# Altium footprint library FootLIB.PcbLib: 16 footprints
Each footprint in its own frame and in the unit in brackets; x right, y up, seen from the top. Pads: shape width x height; smd on the part's side, far side on the other; paste and mask are expansions set on the pad; w line width, h text height; cw(c..) or ccw(c..) is an arc to the next point about the centre after c.
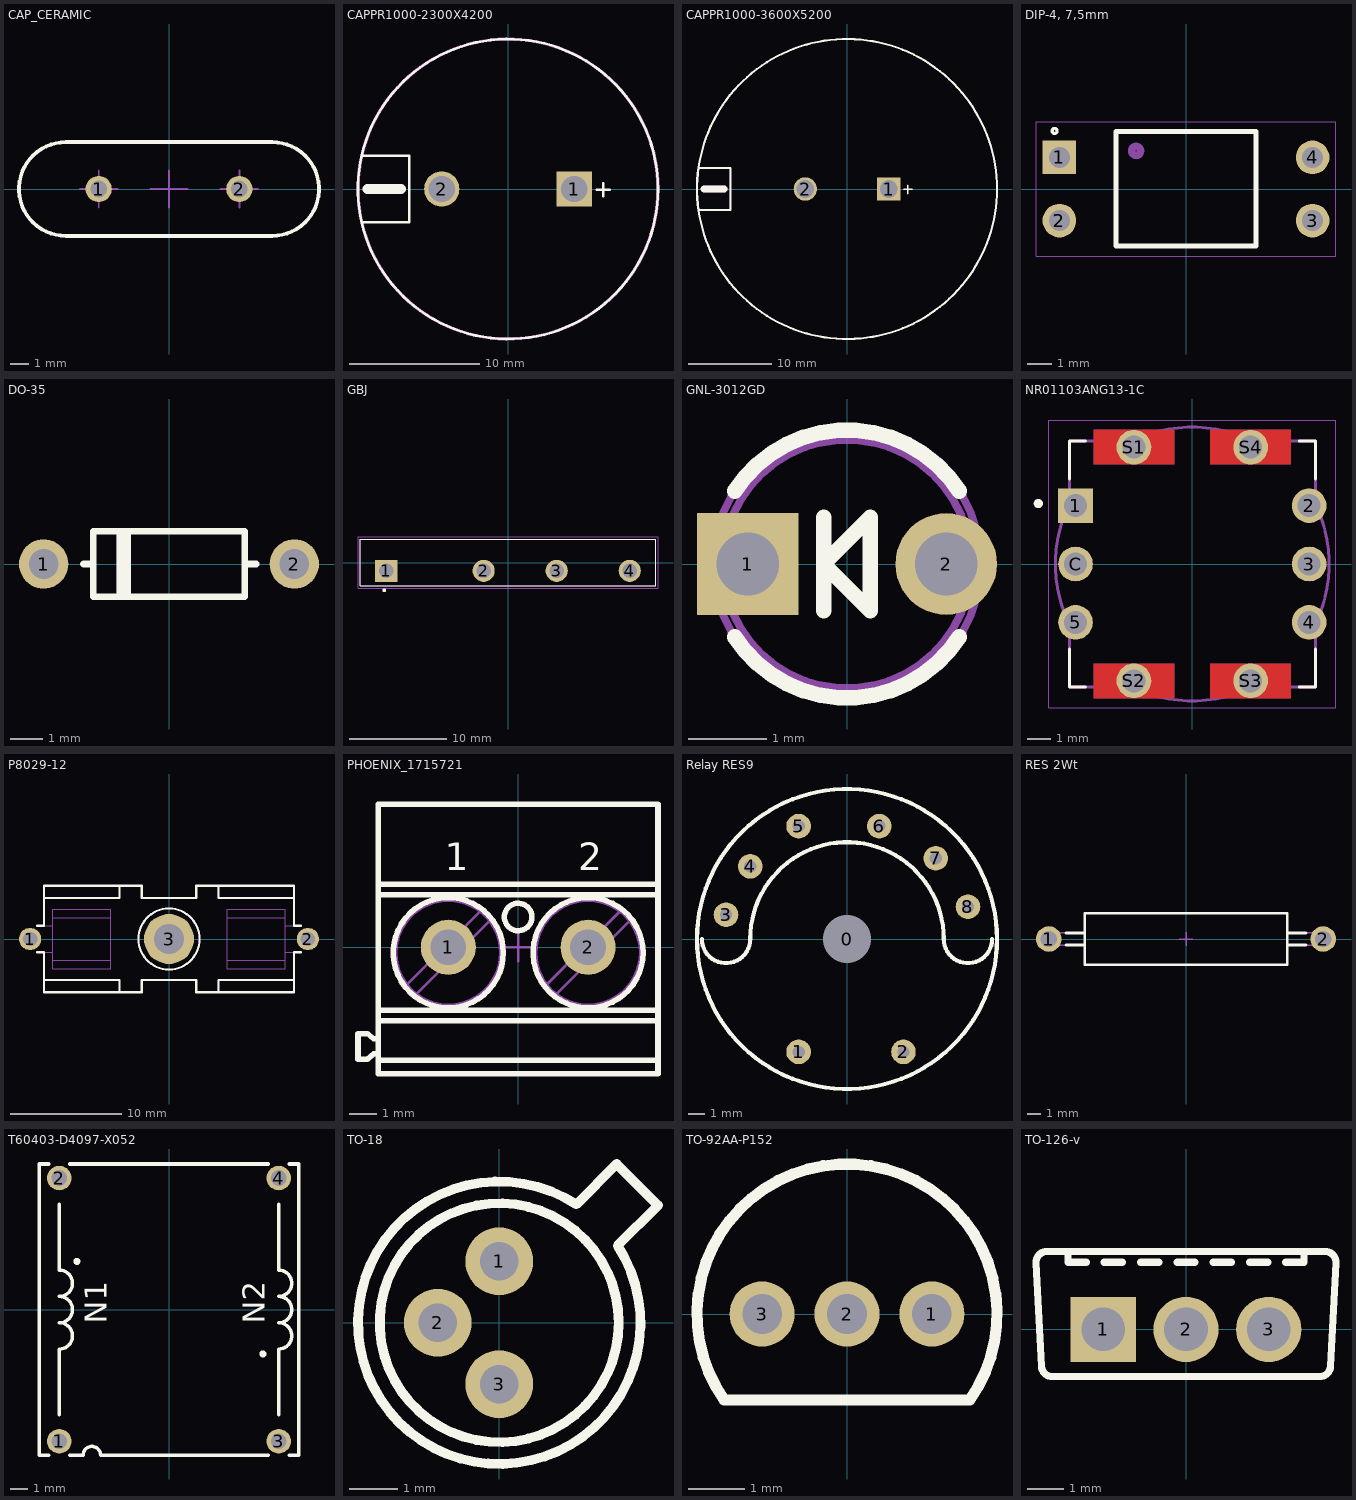
[diagram p0: the footprints below, top view; thin cyan lines are the x and y axes]

## CAP_CERAMIC [mm] "Capacitor Radial Button, Pin spacing 7.5mm - Body Diameter  16mm X Body Width 5mm X Body Height 19mm"
height 19
pads (2):
  round 1.4 hole 0.9: 1(-3.75,0) 2(3.75,0)
Top Overlay:
  lines w0.2: -5.5,-2.5 cw(c-5.5,0) -5.5,2.5 5.5,2.5 cw(c5.5,0) 5.5,-2.5 -5.5,-2.5
Mechanical 8:
  lines w0.1: -4.75,0 -3.75,0 ; -3.75,-1 -3.75,0 ; -3.75,1 -3.75,0 ; -2.75,0 -3.75,0 ; -1,0 0,0 ; 0,-1 0,0 ; 0,1 0,0 ; 1,0 0,0 ; 2.75,0 3.75,0 ; 3.75,-1 3.75,0 ; 3.75,1 3.75,0 ; 4.75,0 3.75,0
Mechanical 14:
  lines w0.1: -5.5,-2.5 cw(c-5.5,0) -5.5,2.5 5.5,2.5 cw(c5.5,0) 5.5,-2.5 -5.5,-2.5
3D body "CAPRB_MURATA_DEBE33D103ZA3B.stp": height 19, standoff -3.8, extent -8,-2.5 8,2.5

## CAPPR1000-2300X4200 [mm] "Capacitor, Radial, Pins spacing 10mm - Body Diameter 23mm X Body  Height 42mm"
height 42
pads (2):
  rect 2.7x2.7 hole 2: 1(5.08,0)
  round 2.7 hole 2: 2(-5.08,0)
Top Overlay:
  circle w0.2: c0,0 r11.5
  lines w0.2: -11.131,-2.54 -7.575,-2.54 -7.575,2.54 -11.131,2.54 ; 6.8,-0.05 7.8,-0.05 ; 7.3,-0.55 7.3,0.45
  lines w0.8: -10.75,0 -8.21,0
Mechanical 13:
  circle w0.254: c0,0 r11.5
Mechanical 14:
  circle w0.1: c0,0 r11.5
  lines w0.1: -11.131,-2.54 -7.575,-2.54 -7.575,2.54 -11.131,2.54 ; 6.8,-0.05 7.8,-0.05 ; 7.3,-0.55 7.3,0.45
  lines w0.8: -10.75,0 -8.21,0
3D body "CAPPR1000-2300X4200.stp": height 42, standoff -4, extent -11.5,-11.5 11.5,11.5

## CAPPR1000-3600X5200 [mm] "Capacitor, Radial, Leads spacing 10mm - Body Diameter 35.0mm X Body  Height 50.0mm"
height 52
pads (2):
  rect 2.8x2.8 hole 2.1: 1(5,0)
  round 2.8 hole 2.1: 2(-5,0)
Top Overlay:
  circle w0.254: c0,0 r18
  lines w0.2: 6.8,-0.05 7.8,-0.05 ; 7.3,-0.55 7.3,0.45
  lines w0.254: -17.75,-2.5 -14,-2.5 -14,2.5 -17.75,2.5
  lines w0.8: -17.159,0 -14.725,0
Mechanical 14:
  circle w0.1: c0,0 r18
  lines w0.1: -17.75,-2.5 -14,-2.5 -14,2.5 -17.75,2.5 ; 6.8,-0.05 7.8,-0.05 ; 7.3,-0.55 7.3,0.45
  lines w0.8: -17.159,0 -14.725,0
3D body "CAPPR1000-3600X5200.stp": height 52, standoff -4, extent -18,-17.958 18,17.958

## DIP-4, 7,5mm [mm]
pads (4):
  rect 1.35x1.35 / inner round 1.35 / far side rect 1.35x1.35 hole 0.85: 1(-5.08,1.27)
  round 1.35 hole 0.85: 2(-5.08,-1.27) 3(5.08,-1.27) 4(5.08,1.27)
Top Overlay:
  circle w0.127: c-5.273,2.33 r0.1
  lines w0.2: -2.8,2.29 -2.8,-2.29 2.8,-2.29 2.8,2.29 ; -2.8,2.3 2.8,2.3
Mechanical 13:
  circle w0.3: c-2.003,1.53 r0.18
Mechanical 15:
  lines w0.05: -6.02,-2.7 -6.02,2.7 6.02,2.7 6.02,-2.7 -6.02,-2.7
3D body "step_temp.STEP": height 4.8, standoff -2.72, extent -5.211,-2.29 5.211,2.29

## DO-35 [mm] "Diode, Axial, Body 4.6 x 2 mm (LxDia. max), Pin spacing 7.62mm"
height 2
pads (2):
  round 1.5 hole 0.9: 1(-3.81,0) 2(3.81,0)
Top Overlay:
  lines w0.2: -2.6,0 -2.35,0 ; -1.499,-1 -1.499,0.999 ; -1.45,-1 -1.45,0.999 ; -1.401,-1 -1.401,0.999 ; -1.352,-1 -1.352,0.999 ; -1.303,-1 -1.303,0.999 ; -1.254,-1 -1.254,0.999 ; 2.4,0 2.65,0 ; -2.298,-1 -2.298,1 2.3,1 2.3,-1 -2.298,-1
Mechanical 14:
  lines w0.1: -2.6,0 -2.35,0 ; -1.55,-1 -1.55,1 ; -1.501,-1 -1.501,1 ; -1.499,-1 -1.499,1 ; -1.452,-1 -1.452,1 ; -1.403,-1 -1.403,1 ; -1.354,-1 -1.354,1 ; -1.305,-1 -1.305,1 ; -1.205,-1 -1.205,1 ; 2.35,0 2.6,0 ; -2.3,-1 2.3,-1 2.3,1 -2.3,1 -2.3,-1 ; -1.45,-1 -1.45,1 -1.45,-1 ; -1.401,-1 -1.401,1 -1.401,-1 ; -1.352,-1 -1.352,1 -1.352,-1 ; -1.303,-1 -1.303,1 -1.303,-1 ; -1.254,-1 -1.254,1 -1.254,-1
3D body "DO-35.stp": height 1.91, standoff -3, extent -4.076,-0.955 4.077,0.955

## GBJ [mm]
pads (4):
  rect 2.27x2.27 hole 1.51: 1(-12.5,-0.85)
  round 2.27 hole 1.51: 2(-2.5,-0.85) 3(5,-0.85) 4(12.5,-0.85)
Top Overlay:
  circle w0.2: c-12.7,-2.85 r0.1
  lines w0.127: -15.15,-2.4 15.15,-2.4 15.15,2.4 -15.15,2.4 -15.15,-2.4
Mechanical 13:
  circle w0.2: c-12.7,-2.85 r0.1
  lines w0.127: -15.15,-2.4 15.15,-2.4 15.15,2.4 -15.15,2.4 -15.15,-2.4
Mechanical 15:
  lines w0.05: -15.4,-2.65 15.4,-2.65 15.4,2.65 -15.4,2.65 -15.4,-2.65
3D body "GBJ2506.STEP": height 27.04, standoff -11.26, extent -15,-2.695 15,1.905

## GNL-3012GD [mm] "LED, Green, Body Dia. 3.43 mm, Pin spacing 2.54mm"
height 6.35
pads (2):
  rect 1.3x1.3 hole 0.8: 1(-1.27,0)
  round 1.3 hole 0.8: 2(1.27,0)
Top Overlay:
  lines w0.2: -1.438,-0.934 ccw(c0,0) 1.438,-0.934 ; -1.438,0.934 cw(c0,0) 1.438,0.934 ; -0.3,-0.6 -0.3,0.6 ; -0.3,0 0.3,0.6 0.3,-0.6 -0.3,0
Mechanical 14:
  circle w0.1: c0,0 r1.715
  circle w0.1: c0,0 r1.59
  lines w0.1: -0.3,-0.6 -0.3,0.6 ; -0.3,0 0.3,-0.6 0.3,0.6 -0.3,0
3D body "LED_3MM_GREEN_v.stp": height 9.85, standoff -3.5, extent -1.715,-1.715 1.715,1.715

## NR01103ANG13-1C [mm] "Rotary switch"
pads (10):
  rect 1.508x1.508 hole 1: 1(-5.08,2.54)
  round 1.508 hole 1: 2(5.08,2.54) 3(5.08,0) 4(5.08,-2.54) 5(-5.08,-2.54) C(-5.08,0)
  round 1.508 hole 1 mask+0: S1(-2.54,5.08) S2(-2.54,-5.08) S3(2.54,-5.08) S4(2.54,5.08)
Top Layer:
  region: -0.79,4.33 -4.29,4.33 -4.29,5.83 -0.79,5.83
  region: 4.29,4.33 0.79,4.33 0.79,5.83 4.29,5.83
  region: 4.29,-5.83 0.79,-5.83 0.79,-4.33 4.29,-4.33
  region: -0.79,-5.83 -4.29,-5.83 -4.29,-4.33 -0.79,-4.33
Bottom Layer:
  region: 4.29,4.33 0.79,4.33 0.79,5.83 4.29,5.83
  region: 4.29,-5.83 0.79,-5.83 0.79,-4.33 4.29,-4.33
  region: -0.79,-5.83 -4.29,-5.83 -4.29,-4.33 -0.79,-4.33
  region: -0.79,4.33 -4.29,4.33 -4.29,5.83 -0.79,5.83
Top Overlay:
  circle w0.2: c-6.7,2.63 r0.1
  lines w0.127: -5.35,-3.7 -5.35,-5.35 -4.65,-5.35 ; -5.35,3.7 -5.35,5.35 -4.65,5.35 ; 4.65,-5.35 5.35,-5.35 5.35,-3.7 ; 4.65,5.35 5.35,5.35 5.35,3.7
Top Solder:
  region: -0.7,4.23 -4.4,4.23 -4.4,5.93 -0.7,5.93
  region: 4.38,4.23 0.68,4.23 0.68,5.93 4.38,5.93
  region: -0.7,-5.93 -4.4,-5.93 -4.4,-4.23 -0.7,-4.23
  region: 4.38,-5.93 0.68,-5.93 0.68,-4.23 4.38,-4.23
Bottom Solder:
  region: -0.7,4.23 -4.4,4.23 -4.4,5.93 -0.7,5.93
  region: 4.38,4.23 0.68,4.23 0.68,5.93 4.38,5.93
  region: -0.7,-5.93 -4.4,-5.93 -4.4,-4.23 -0.7,-4.23
  region: 4.38,-5.93 0.68,-5.93 0.68,-4.23 4.38,-4.23
Mechanical 13:
  lines w0.127: -5.353,-2.611 cw(c0,0) -5.353,2.611 ; -5.35,-2.616 -5.35,-5.35 -2.616,-5.35 ; -5.35,2.616 -5.35,5.35 -2.616,5.35 ; -2.611,-5.353 ccw(c0,0) 2.611,-5.353 ; -2.611,5.353 cw(c0,0) 2.611,5.353 ; 2.616,-5.35 5.35,-5.35 5.35,-2.616 ; 2.616,5.35 5.35,5.35 5.35,2.616 ; 5.353,-2.611 ccw(c0,0) 5.353,2.611
Mechanical 15:
  lines w0.05: -6.25,-6.25 6.25,-6.25 6.25,6.25 -6.25,6.25 -6.25,-6.25
3D body "step_temp.STEP": height 20, standoff -3.5, extent -5.978,-5.978 5.978,5.978

## P8029-12 [mm] "SCHURTER OGN Series, Fuse holder for 5x20mm Fuses"
height 11.5
pads (3):
  round 2 hole 1.3: 1(-12.5,0) 2(12.5,0)
  round 4.5 hole 2.7: 3(0,0)
Top Overlay:
  circle w0.2: c0,0 r2.75
  lines w0.2: -11.85,-1.2 -11.25,-1.2 -11.25,-4.8 -2.45,-4.8 -2.45,-3.7 2.45,-3.7 2.45,-4.8 11.25,-4.8 ; -11.85,1.2 -11.25,1.2 -11.25,4.8 -2.45,4.8 -2.45,3.7 2.45,3.7 2.45,4.8 11.25,4.8 11.25,1.2 11.85,1.2 ; -11.25,-3.7 -4.45,-3.7 -4.45,-4.8 ; -11.25,3.7 -4.45,3.7 -4.45,4.8 ; 4.45,-4.8 4.45,-3.7 11.25,-3.7 11.25,-4.8 ; 4.45,4.8 4.45,3.7 11.25,3.7 ; 11.85,-1.2 11.25,-1.2 11.25,-4.8
Mechanical 14:
  circle w0.1: c0,0 r2.75
  lines w0.1: -11.85,-1.2 -10.45,-1.2 ; -11.85,1.2 -10.45,1.2 -10.45,0 ; -11.25,-3.7 -4.45,-3.7 -4.45,-4.8 ; -11.25,-1.2 -11.25,-4.8 -2.45,-4.8 -2.45,-3.7 2.45,-3.7 2.45,-4.8 11.25,-4.8 ; -11.25,1.2 -11.25,4.8 -2.45,4.8 -2.45,3.7 2.45,3.7 2.45,4.8 11.25,4.8 11.25,1.2 ; -11.25,3.7 -4.45,3.7 -4.45,4.8 ; -10.45,-1.9 -5.25,-1.9 ; -10.45,1.9 -5.25,1.9 ; 4.45,-4.8 4.45,-3.7 11.25,-3.7 11.25,-4.8 ; 4.45,4.8 4.45,3.7 11.25,3.7 ; 5.25,-1.9 10.45,-1.9 ; 5.25,1.9 10.45,1.9 ; 10.45,0 10.45,-1.2 11.85,-1.2 ; 10.45,1.2 11.85,1.2 ; 11.25,-1.2 11.25,-4.8 ; -10.45,-2.7 -10.45,2.7 -5.25,2.7 -5.25,-2.7 -10.45,-2.7 ; 5.25,-2.7 5.25,2.7 10.45,2.7 10.45,-2.7 5.25,-2.7
3D body: height 2.5, standoff -3, extent -12.8,-0.4 -12.575,0.4
3D body "FUSH_SCHURTER_OGN.stp": height 11.5, standoff -3.8, extent -12.65,-5.2 12.65,5.2

## PHOENIX_1715721 [mm] "Terminal Block, 17.5A 250V, Pitch 5.08mm, 2 Positions, Screw Connection"
height 13.8
pads (2):
  round 2 hole 1.3: 1(-2.54,0) 2(2.54,0)
Top Overlay:
  circle w0.2: c2.54,-0.2 r2
  circle w0.2: c-2.54,-0.2 r2
  circle w0.2: c0,1.1 r0.5
  lines w0.2: -5.08,-4.1 5.08,-4.1 ; -5.08,-3.869 -5.247,-3.869 -5.479,-4.064 -5.821,-4.064 -5.821,-3.136 -5.479,-3.136 -5.247,-3.331 -5.08,-3.331 ; -5.08,-2.672 5.08,-2.672 ; -5.08,-2.283 5.08,-2.283 ; -5.08,1.909 5.08,1.909 ; -5.08,2.29 5.08,2.29 ; -5.08,-4.6 -5.08,5.2 5.08,5.2 5.08,-4.6 -5.08,-4.6
  text "1" at -2.667,2.8 h1
  text "2" at 2.184,2.8 h1
Mechanical 8:
  lines w0.1: -3.04,0 -2.54,0 ; -2.54,-0.5 -2.54,0 ; -2.54,0.5 -2.54,0 ; -2.04,0 -2.54,0 ; -0.5,0 0,0 ; 0,-0.5 0,0 ; 0,0.5 0,0 ; 0.5,0 0,0 ; 2.04,0 2.54,0 ; 2.54,-0.5 2.54,0 ; 2.54,0.5 2.54,0 ; 3.04,0 2.54,0
Mechanical 14:
  circle w0.1: c-2.54,-0.2 r1.891
  circle w0.1: c2.54,-0.2 r1.891
  circle w0.1: c0,1.1 r0.5
  circle w0.1: c-2.54,-0.2 r2
  circle w0.1: c2.54,-0.2 r2
  lines w0.1: -5.08,-4.1 5.08,-4.1 ; -5.08,-3.869 -5.247,-3.869 -5.479,-4.064 -5.821,-4.064 -5.821,-3.136 -5.479,-3.136 -5.247,-3.331 -5.08,-3.331 ; -5.08,-2.672 5.08,-2.672 ; -5.08,-2.283 5.08,-2.283 ; -5.08,1.909 5.08,1.909 ; -5.08,2.29 5.08,2.29 ; -4.043,-1.349 -1.391,1.303 ; -3.689,-1.703 -1.037,0.949 ; 1.037,-1.349 3.689,1.303 ; 1.391,-1.703 4.043,0.949 ; -5.08,-4.6 5.08,-4.6 5.08,5.2 -5.08,5.2 -5.08,-4.6
  text "2" at 2.184,2.8 h1
  text "1" at -2.667,2.8 h1
3D body "PHOENIX_1715721.stp": height 14.2, standoff -3.5, extent -5.821,-4.6 5.08,5.2

## Relay RES9 [mil]
pads (9):
  round 59.06 hole 118.11 unplated: 0(0,0)
  round 60 hole 30: 1(-118.11,-275.59) 2(137.8,-275.59) 3(-295.28,59.06) 4(-236.22,177.17) 5(-118.11,275.59) 6(78.74,275.59) 7(216.54,196.85) 8(295.28,78.74)
Top Overlay:
  circle w10: c0,0 r366.16
  lines w10: -354.33,0 ccw(c-295.28,0) -236.22,0 cw(c0,0) 236.22,0 ccw(c295.28,0) 354.33,0

## RES 2Wt [mm] "Resistor, Axial, Pad spacing 20.32mm - Body Lengh 14mm X Body Diameter 3.5mm"
height 3.8
pads (2):
  round 1.9 hole 1.2: 1(-10.16,0) 2(10.16,0)
Top Overlay:
  lines w0.2: -8.887,-0.45 -7.5,-0.45 ; -8.887,0.45 -7.5,0.45 ; 7.5,-0.45 8.887,-0.45 ; 7.5,0.45 8.887,0.45 ; -7.5,-1.9 7.5,-1.9 7.5,1.9 -7.5,1.9 -7.5,-1.9
Mechanical 8:
  lines w0.1: -10.66,0 -10.16,0 ; -10.16,-0.5 -10.16,0 ; -10.16,0.5 -10.16,0 ; -9.66,0 -10.16,0 ; -0.5,0 0,0 ; 0,-0.5 0,0 ; 0,0.5 0,0 ; 0.5,0 0,0 ; 9.66,0 10.16,0 ; 10.16,-0.5 10.16,0 ; 10.16,0.5 10.16,0 ; 10.66,0 10.16,0
Mechanical 14:
  lines w0.1: -7.5,-0.45 -10.16,-0.45 cw(c-10.16,0) -10.16,0.45 -7.5,0.45 ; 7.5,-0.45 10.16,-0.45 ccw(c10.16,0) 10.16,0.45 7.5,0.45 ; -7.5,-1.9 7.5,-1.9 7.5,1.9 -7.5,1.9 -7.5,-1.9
3D body "RES2032-1400X350.stp": height 3.8, standoff -3.6, extent -10.61,-1.9 10.61,1.9

## T60403-D4097-X052 [mm] "Transformer"
height 13.5
pads (4):
  round 1.4 hole 0.9: 1(-6.25,-7.5) 2(-6.25,7.5) 3(6.25,-7.5) 4(6.25,7.5)
Top Overlay:
  circle w0.2: c-5.25,2.75 r0.1
  circle w0.2: c5.35,-2.525 r0.1
  lines w0.2: -6.85,-8.3 -7.4,-8.3 -7.4,8.3 -6.85,8.3 ; -6.25,-6 -6.25,-2.25 ccw(c-6.25,-1.5) -6.25,-0.75 ccw(c-6.25,0) -6.25,0.75 ccw(c-6.25,1.5) -6.25,2.25 -6.25,6 ; -5.65,-8.3 -4.9,-8.3 cw(c-4.4,-8.3) -3.9,-8.3 5.65,-8.3 ; -5.65,8.3 5.65,8.3 ; 6.25,-6 6.25,-2.25 ccw(c6.25,-1.5) 6.25,-0.75 ccw(c6.25,0) 6.25,0.75 ccw(c6.25,1.5) 6.25,2.25 6.25,6 ; 6.85,-8.3 7.4,-8.3 7.4,8.3 6.85,8.3
  text "N1" at -3.55,-0.807 h1.27
  text "N2" at 5.45,-0.807 h1.27
Mechanical 14:
  circle w0.1: c-5.25,2.75 r0.1
  circle w0.1: c5.35,-2.525 r0.1
  lines w0.1: -6.85,-8.3 -7.4,-8.3 -7.4,8.3 -6.85,8.3 ; -6.25,-6 -6.25,-2.25 ccw(c-6.25,-1.5) -6.25,-0.75 ccw(c-6.25,0) -6.25,0.75 ccw(c-6.25,1.5) -6.25,2.25 -6.25,6 ; -5.65,-8.3 -4.9,-8.3 cw(c-4.4,-8.3) -3.9,-8.3 5.65,-8.3 ; -5.65,8.3 5.65,8.3 ; 6.25,-6 6.25,-2.25 ccw(c6.25,-1.5) 6.25,-0.75 ccw(c6.25,0) 6.25,0.75 ccw(c6.25,1.5) 6.25,2.25 6.25,6 ; 6.85,-8.3 7.4,-8.3 7.4,8.3 6.85,8.3
  text "N1" at -3.55,-0.807 h1.27
  text "N2" at 5.45,-0.807 h1.27
3D body "XFMR_VAC_T60403-D4097-X052.stp": height 13.5, standoff -3.6, extent -7.4,-8.3 7.4,8.3

## TO-18 [mm] "TO-18  3 Leads, Pitch 2.54mm, Body Dia. 5.84mm, Leads Dia. 0.5mm"
height 10.13
pads (3):
  round 1.4 hole 0.8: 1(0,1.27) 2(-1.27,0) 3(0,-1.27)
Top Overlay:
  circle w0.2: c0,0 r2.47
  lines w0.2: 1.593,2.447 ccw(c0,0) 2.447,1.593 3.282,2.428 2.428,3.282 1.593,2.447
Mechanical 14:
  circle w0.1: c0,0 r2.47
  lines w0.1: 1.593,2.447 ccw(c0,0) 2.447,1.593 3.282,2.428 2.428,3.282 1.593,2.447
3D body "TO-18.stp": height 10.13, standoff -3.6, extent -2.92,-2.92 3.282,3.282

## TO-92AA-P152 [mm] "TO-92 (TO-226),  Pitch 1.524mm, Flat Index, 3 In-Line, Axial Leads, Body Dia. 5.3mm, Leads Dia. 0.5mm (max)"
height 5.33
pads (3):
  round 1.15 hole 0.7: 1(1.5,0) 2(0,0) 3(-1.5,0)
Top Overlay:
  lines w0.2: -2.171,-1.52 cw(c0,0) 2.171,-1.52 -2.171,-1.52
Mechanical 14:
  lines w0.1: -2.171,-1.52 cw(c0,0) 2.171,-1.52 -2.171,-1.52
3D body "TO-92AA-P152.stp": height 9.33, standoff -3.2, extent -2.587,-1.53 2.588,2.66

## TO-126-v [mm] "TO-126 3-Terminal - Vertical Mount"
height 14.2
pads (3):
  rect 1.8x1.8 hole 1.2: 1(-2.28,0)
  round 1.8 hole 1.2: 2(0,0) 3(2.28,0)
Top Overlay:
  lines w0.2: -3.25,2.15 -3.25,1.85 -2.75,1.85 ; -2.25,1.85 -1.75,1.85 ; -1.25,1.85 -0.75,1.85 ; -0.25,1.85 0.25,1.85 ; 0.75,1.85 1.25,1.85 ; 1.75,1.85 2.25,1.85 ; 2.75,1.85 3.25,1.85 3.25,2.15 ; -4.133,1.834 cw(c-3.834,1.85) -3.834,2.15 3.834,2.15 cw(c3.834,1.85) 4.133,1.834 3.984,-1.016 cw(c3.685,-1) 3.685,-1.3 -3.685,-1.3 cw(c-3.685,-1) -3.984,-1.016 -4.133,1.834
Mechanical 14:
  lines w0.1: -3.25,2.15 -3.25,1.85 -2.75,1.85 ; -2.25,1.85 -1.75,1.85 ; -1.25,1.85 -0.75,1.85 ; -0.25,1.85 0.25,1.85 ; 0.75,1.85 1.25,1.85 ; 1.75,1.85 2.25,1.85 ; 2.75,1.85 3.25,1.85 3.25,2.15 ; -4.133,1.834 cw(c-3.834,1.85) -3.834,2.15 3.834,2.15 cw(c3.834,1.85) 4.133,1.834 3.984,-1.016 cw(c3.685,-1) 3.685,-1.3 -3.685,-1.3 cw(c-3.685,-1) -3.984,-1.016 -4.133,1.834
3D body "TO-126-V.stp": height 14.2, standoff -3.1, extent -4.134,-1.3 4.134,2.15